# Altium schematic symbol library Header 2X4.SchLib: 1 symbol
Pins are listed as number, name and electrical type; pins without a type are passive.

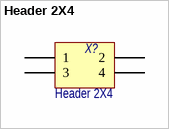
[diagram p0: symbol Header 2X4]

## Header 2X4
designator X?
Header, 4-Pin, Dual row; Потребление, Вт: 0,0; Назначение: Header, 4-Pin, Dual row; Наименование: Header 2X4
footprint PBD-4
pins: 1, 2, 3, 4